# EAGLE library part ESP-12 (library ESP8266-ESP12)
low cost Wifi to Serial Module
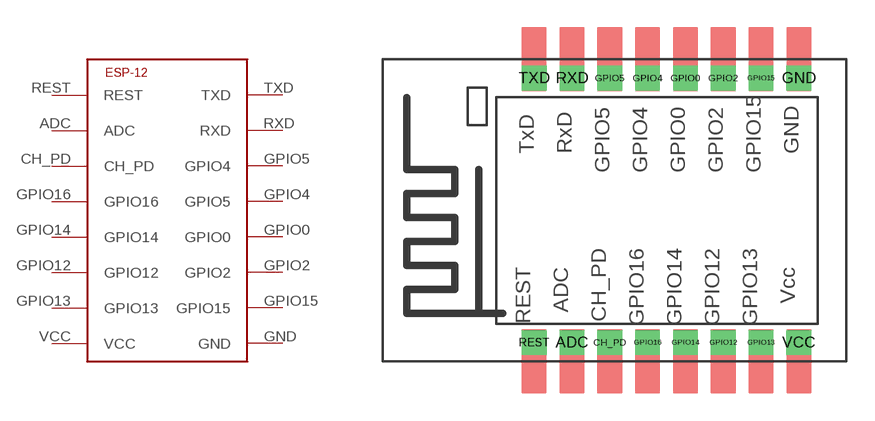
[diagram p0: symbol with the pads of ESP-12; footprint ESP-12]

Designator prefix ESP

## ESP-12ESP-12  [ESP-12]
ADC  ADC
CH_PD  CH_PD
GND  GND
GPIO0  GPIO0
GPIO2  GPIO2
GPIO4  GPIO5
GPIO5  GPIO4
GPIO12  GPIO12
GPIO13  GPIO13
GPIO14  GPIO14
GPIO15  GPIO15
GPIO16  GPIO16
REST  REST
RXD  RXD
TXD  TXD
VCC  VCC

## Footprint ESP-12 (pad centres in mm)
drill 0.8 square: ADC 10,1; CH_PD 12,1; GND 22,15; GPIO0 16,15; GPIO2 18,15; GPIO4 14,15; GPIO5 12,15; GPIO12 18,1; GPIO13 20,1; GPIO14 16,1; GPIO15 20,15; GPIO16 14,1; REST 8,1; RXD 10,15; TXD 8,15; VCC 22,1